# Altium schematic symbol library IC-Silergy.SchLib: 5 symbols
Pins are listed as number, name and electrical type; pins without a type are passive.

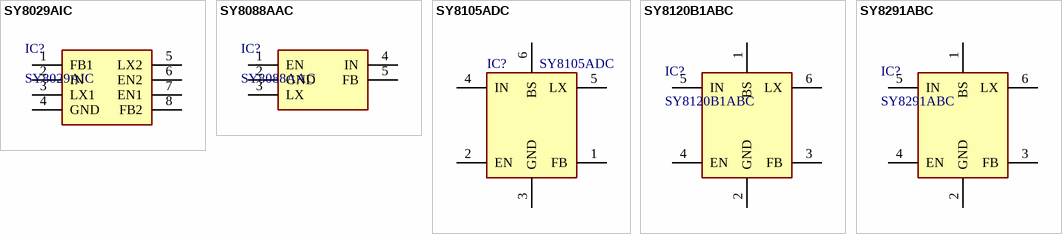
[diagram p0: symbols SY8029AIC to SY8291ABC]

## SY8029AIC
designator IC?
DC-DC降压芯片; Manufacturer_Name: Silergy; Manufacturer_Part_Number: SY8029AIC; LCSC: C207636
footprint SOT23-8
pins: 1 FB1, 2 IN, 3 LX1, 4 GND, 5 LX2, 6 EN2, 7 EN1, 8 FB2

## SY8088AAC
designator IC?
DC-DC降压芯片; Manufacturer_Name: Silergy; Manufacturer_Part_Number: SY8088AAC; LCSC: C79313
footprint SOT23-5 (SOT23, 5-Leads, Body 2.90x2.80mm, Pitch 0.95mm, IPC Medium Density)
pins: 1 EN, 2 GND, 3 LX, 4 IN, 5 FB

## SY8105ADC
designator IC?
DC-DC降压芯片; Manufacturer_Name: Silergy; Manufacturer_Part_Number: SY8105ADC; LCSC: C178247
footprint SOT23-6
pins: 1 FB, 2 EN, 3 GND, 4 IN, 5 LX, 6 BS

## SY8120B1ABC
designator IC?
DC-DC降压芯片; Manufacturer_Name: Silergy Corp; Manufacturer_Part_Number: SY8120B1ABC; LCSC: C88474
footprint SOT23-6 (SOT23, 6-Leads, Body 2.95x2.85mm, Pitch 0.95mm, IPC Medium Density)
pins: 1 BS, 2 GND, 3 FB, 4 EN, 5 IN, 6 LX

## SY8291ABC
designator IC?
DC-DC降压芯片 输入40V 输出1.2A; Manufacturer_Name: Silergy; Manufacturer_Part_Number: SY8291ABC; LCSC: C125896
footprint SOT23-6 (SOT23, 6-Leads, Body 2.95x2.85mm, Pitch 0.95mm, IPC Medium Density)
pins: 1 BS, 2 GND, 3 FB, 4 EN, 5 IN, 6 LX